# EAGLE library part MOLEX_53047-12 (library added_parts)
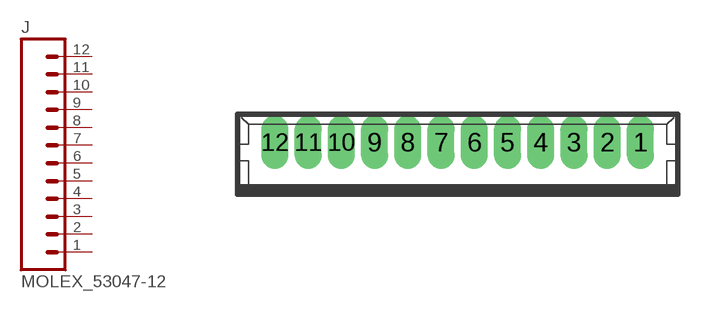
[diagram p13: symbol with the pads of MOLEX_53047-12; footprint MOLEX_53047-12]

Designator prefix J

## MOLEX_53047-12  [MOLEX_53047-12]
1  1  pas
2  2  pas
3  3  pas
4  4  pas
5  5  pas
6  6  pas
7  7  pas
8  8  pas
9  9  pas
10  10  pas
11  11  pas
12  12  pas

## Footprint MOLEX_53047-12 (pad centres in mm)
drill 0.5 pad 0.698 long: 1 6.865,0; 2 5.615,0; 3 4.365,0; 4 3.115,0; 5 1.865,0; 6 0.615,0; 7 -0.635,0; 8 -1.885,0; 9 -3.135,0; 10 -4.385,0; 11 -5.635,0; 12 -6.885,0